# EAGLE library part HARWIN_14 (library CNTRL_BOARD)
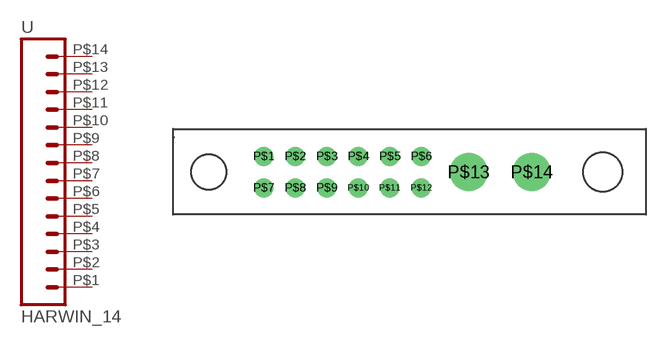
[diagram p1: symbol with the pads of HARWIN_DATAMATE_14; footprint HARWIN_DATAMATE_14]

Designator prefix -

## HARWIN_14  [HARWIN_DATAMATE_14]
P$1  1  pas
P$2  2  pas
P$3  3  pas
P$4  4  pas
P$5  5  pas
P$6  6  pas
P$7  7  pas
P$8  8  pas
P$9  9  pas
P$10  10  pas
P$11  11  pas
P$12  12  pas
P$13  13  pas
P$14  14  pas

## Footprint HARWIN_DATAMATE_14 (pad centres in mm)
drill 0.7: P$1 0,0; P$2 2,0; P$3 4,0; P$4 6,0; P$5 8,0; P$6 10,0; P$7 0,-2; P$8 2,-2; P$9 4,-2; P$10 6,-2; P$11 8,-2; P$12 10,-2
drill 1.6: P$13 13,-1; P$14 17,-1